# Altium schematic symbol library RPSLib_Connectors.SchLib: 97 symbols (part 1 of 2)
Pins are listed as number, name and electrical type; pins without a type are passive.

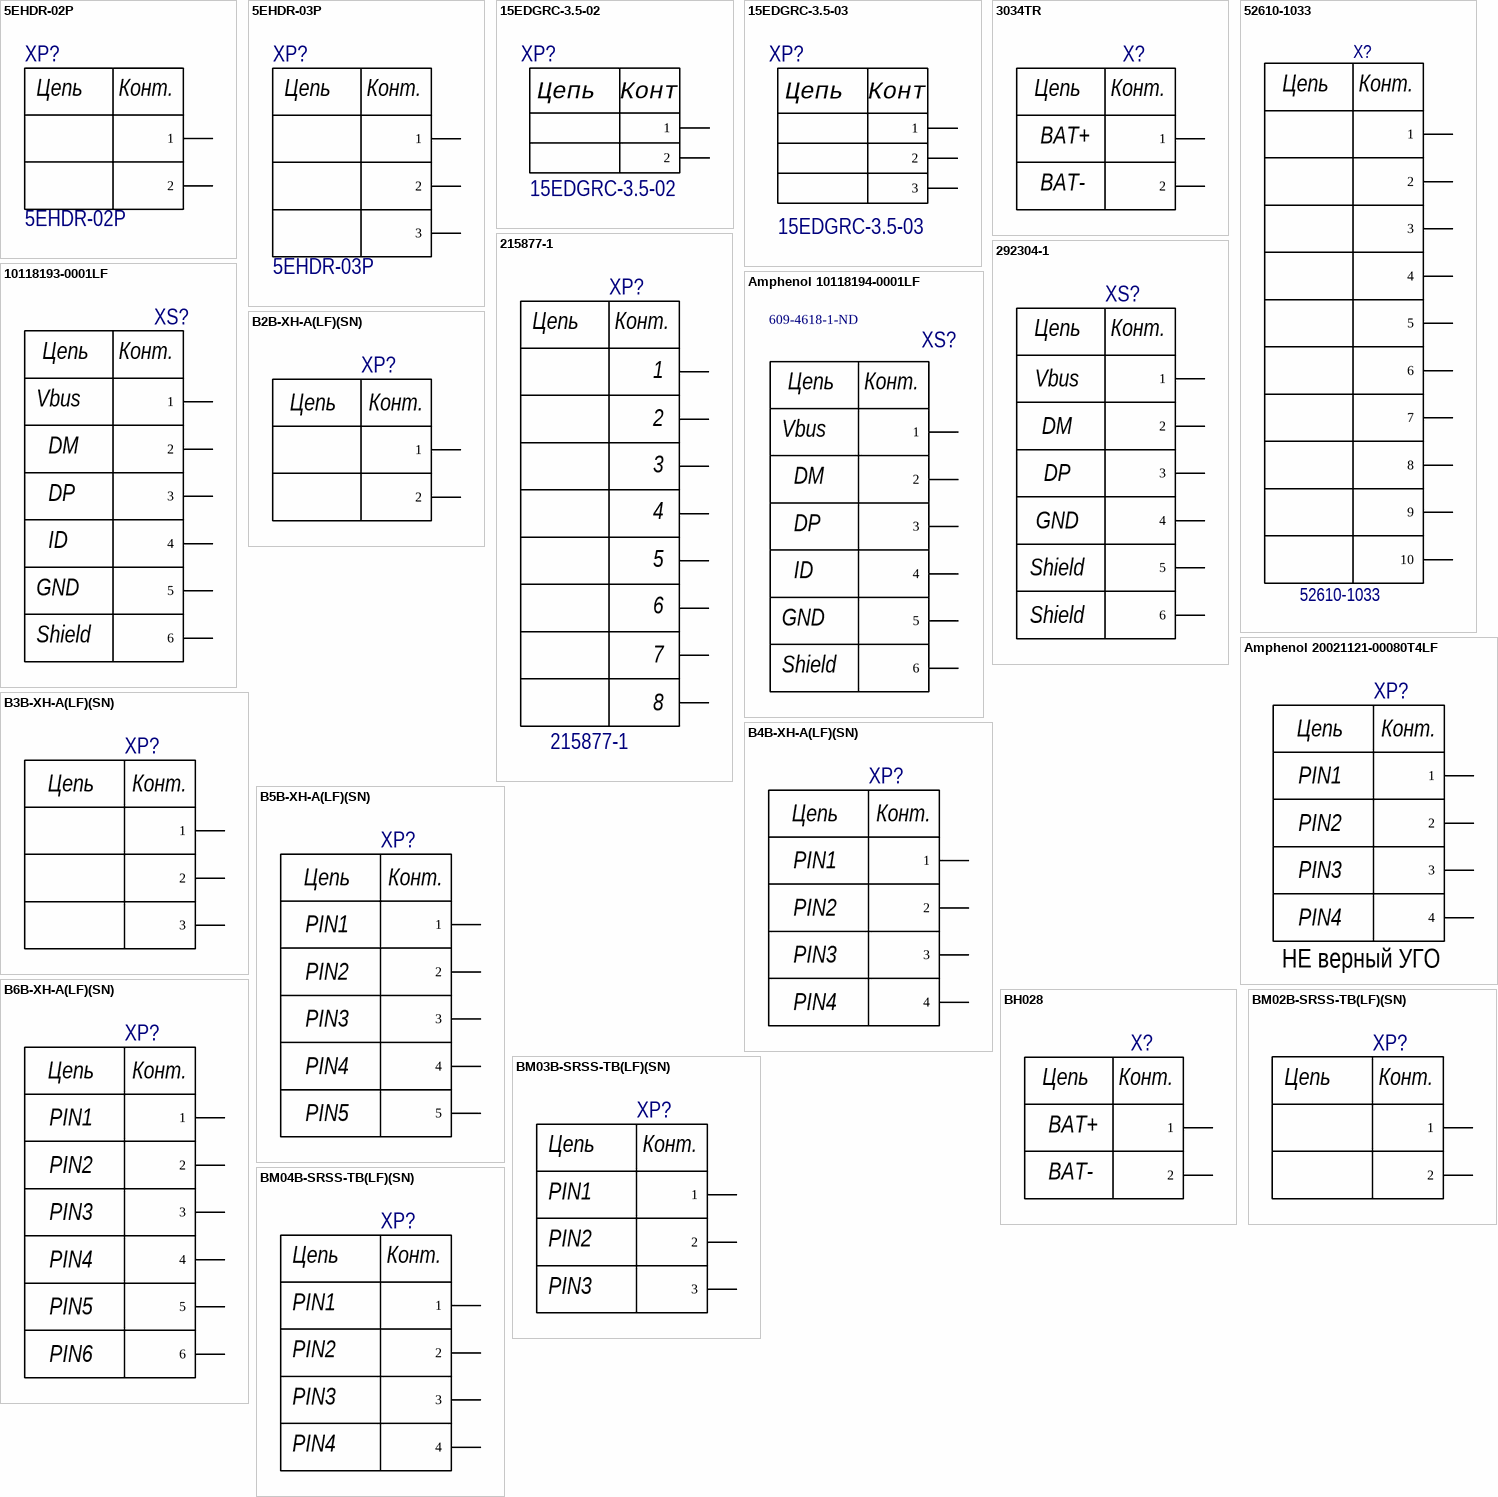
[diagram p0: symbols 5EHDR-02P to BM04B-SRSS-TB(LF)(SN)]

## 5EHDR-02P
designator XP?
PartNo: 5EHDR-03P
footprint 5EHDR-02P
pins: 1, 2
text: Цепь; Конт.

## 5EHDR-03P
designator XP?
PartNo: 5EHDR-03P
footprint 5EHDR-03P
pins: 1, 2, 3
text: Цепь; Конт.

## 15EDGRC-3.5-02
designator XP?
Клеммник разъемный угловой 3.5мм 2pin на плату; PartNo: 5EHDR-03P
footprint 15EDGRC-3.5-02 (Клеммник разъемный угловой 3.5мм 2pin на плату)
pins: 1, 2
text: Цепь; Конт

## 15EDGRC-3.5-03
designator XP?
Клеммник разъемный угловой 3.5мм 3pin на плату; PartNo: 5EHDR-03P
footprint 15EDGRC-3.5-03 (Клеммник разъемный угловой 3.5мм 3pin на плату)
pins: 1, 2, 3
text: Цепь; Конт

## 3034TR
designator X?  (value not drawn)
Держатель батареи; Manufacturer: JST; Manufacturer Part Number: B2B-XH-A(LF)(SN); Number of Positions: 2; Connector Type: Male Pin; Contact Resistance: 20mR; Max Current Rating: 3A; Max Voltage Rating (AC): 250V; Insulation Resistance: 1GR; Pitch: 2.5mm; Wire/Cable Gauge: 22AWG; Supplier 1: Digi-Key; Stock 1: 494280; Pricing 1: 1=0.15, 10=0.141, 100=0.0868, 500=0.07182, 1000=0.06284, 5000=0.05387, 10000=0.05237 (USD); Mount: Through Hole; Contact Plating: Copper,Lead,Tin; Colour: Natural; Contact Material: Brass; Housing Material: Polyamide; Housing Colour: White; Min Operating Temperature: -25°C; Max Operating Temperature: 85°C; Termination: Solder; Number of Rows: 1; Packaging: Bulk; Fastening Type: Detent; Orientation: Straight; Current Rating: 3A; Voltage Rating: 250V; Voltage Rating (AC): 250V; Number of Contacts: 2; Max Voltage Rating (DC): 250V; Length: 7.4mm; Depth: 5.75mm; Lead Pitch: 2.5mm; Lead Free: Lead Free; REACH SVHC: No SVHC; Supplier Part Number 1: 455-2247-ND; РКД Наименование: *
footprint 3034TR (3034TR Battery Holder)
pins: 1, 2
text: Цепь; Конт.; BAT+; BAT-

## 52610-1033
designator X?
Conn FFC/FPC Connector SKT 10 POS 1mm Solder ST SMD Embossed T/R; Manufacturer: Molex; Current Rating: 1A; Voltage Rating: 125V; Number of Positions: 10; Gender: Receptacle; Contact Resistance: 20mR; Stackable: No; Supplier 1: Digi-Key; Manufacturer Part Number: 52610-1033; RoHS: Yes; Category: FFC / FPC; Stock 1: 2389; Pricing 1: 1=1,43000, 10=1,18200, 100=0,98520 (USD); Contact Material: Bronze; Contact Plating: Tin,Silver; Housing Color: White; Housing Material: Polyamide; Min Operating Temperature: -40°C; Max Operating Temperature: 85°C; Number of Rows: 1; Package Quantity: 1000; Packaging: Tape and Reel; Termination: Solder; Number of Contacts: 10; Orientation: Vertical; Number of Circuits: 10; Length: 16.6mm; Pitch: 1mm; Depth: 4.5mm; Flammability Rating: UL94 V-0; RoHS Compliant: Yes; REACH SVHC: Unknown; ComponentLink1URL: https://datasheet.ciiva.com/22747/1752222-22747856.pdf?src-supplier=Element14; ComponentLink1Description: https://datasheet.ciiva.com/22747/1752222-22747856.pdf?src-supplier=Element14; ComponentLink2URL: https://datasheet.ciiva.com/24132/0526101033-ffc-fpc-connectors-294979-24132721.pdf?src-supplier=Mouser; ComponentLink2Description: https://datasheet.ciiva.com/24132/0526101033-ffc-fpc-connectors-294979-24132721.pdf?src-supplier=Mouser; ComponentLink3URL: https://datasheet.ciiva.com/26945/getdatasheetpartid-789778-26945556.pdf?src-supplier=Verical; ComponentLink3Description: https://datasheet.ciiva.com/26945/getdatasheetpartid-789778-26945556.pdf?src-supplier=Verical; ComponentLink4URL: https://datasheet.ciiva.com/30493/0900766b8127bcb6-30493910.pdf?src-supplier=RSComponents; ComponentLink4Description: https://datasheet.ciiva.com/30493/0900766b8127bcb6-30493910.pdf?src-supplier=RSComponents; Supplier Part Number 1: WM10999CT-ND
footprint MOLX-52610-1033 (FPC Connector, 10-Leads, Vertical, Pitch 1.0 mm, Mated Height 5.75 mm, SMT)
pins: 1, 2, 3, 4, 5, 6, 7, 8, 9, 10
text: Цепь; Конт.

## 215877-1
designator XP?
Conn RJ-45 F 8 POS 2.54mm Solder RA Thru-Hole 8 Terminal 1 Port Automotive Cat 3 Reel; Manufacturer: TE Connectivity; Supplier 1: LCSC; Manufacturer Part Number: 215877-1; RoHS: Yes; Category: Modular / Ethernet Connectors; Stock 1: 3875; Pricing 1: 1=0,87640, 10=0,72500, 30=0,61680, 100=0,44610, 500=0,43390, 1000=0,42780 (USD); ComponentLink1URL: https://datasheet.ciiva.com/14118/215877-draw-14118886.pdf?src-supplier=Distrelec; ComponentLink1Description: https://datasheet.ciiva.com/14118/215877-draw-14118886.pdf?src-supplier=Distrelec; ComponentLink2URL: https://datasheet.ciiva.com/15170/getdatasheetpartid-99014-15170516.pdf?src-supplier=Verical; ComponentLink2Description: https://datasheet.ciiva.com/15170/getdatasheetpartid-99014-15170516.pdf?src-supplier=Verical; ComponentLink3URL: https://datasheet.ciiva.com/16310/215877-1-16310656.pdf?src-supplier=Future+Electronics; ComponentLink3Description: https://datasheet.ciiva.com/16310/215877-1-16310656.pdf?src-supplier=Future+Electronics; ComponentLink4URL: https://datasheet.ciiva.com/1107/1656133-1107298.pdf?src-supplier=Element14; ComponentLink4Description: https://datasheet.ciiva.com/1107/1656133-1107298.pdf?src-supplier=Element14; ComponentLink5URL: https://datasheet.ciiva.com/6930/eng-cd-215877-af1-6930407.pdf?src-supplier=Digi-Key; ComponentLink5Description: https://datasheet.ciiva.com/6930/eng-cd-215877-af1-6930407.pdf?src-supplier=Digi-Key; ComponentLink6URL: https://datasheet.ciiva.com/6930/eng-cd-215877-af1-6930410.pdf?src-supplier=Digi-Key; ComponentLink6Description: https://datasheet.ciiva.com/6930/eng-cd-215877-af1-6930410.pdf?src-supplier=Digi-Key; ComponentLink7URL: https://datasheet.ciiva.com/30201/eng-cs-82066-mod-jacks-and-mrj21-prod-single-1107-30201829.pdf?src-supplier=Onlinecomponents.com; ComponentLink7Description: https://datasheet.ciiva.com/30201/eng-cs-82066-mod-jacks-and-mrj21-prod-single-1107-30201829.pdf?src-supplier=Onlinecomponents.com; Supplier Part Number 1: C305919
footprint TE 215877-1 (Alcoswitch SE, RJ45 Connectors,)
pins: 1, 2, 3, 4, 5, 6, 7, 8
text: Цепь; Конт.

## 292304-1
designator XS?  (value not drawn)
Conn USB RCP 4 POS 2.5mm Solder RA Thru-Hole 4 Terminal 1 Port Tray; Manufacturer: TE Connectivity; Number of Terminals/Pins: 4; Plating: Bright,Tin; Current Rating: 1A; Gender: Receptacle; Voltage Rating (AC): 30V; Number of Ports: 1; Insulation Resistance: 1GR; USB Standard: USB 2.0; Circuit Application: Signal; Connector System: Cable-to-Board; Plating Thickness: 0.76um; PCB Thickness: 1.57mm; Tail Length: 0.1185inch; Approvals: UL; Supplier 1: Digi-Key; Manufacturer Part Number: 292304-1; RoHS: Yes; Category: Audio / Video Connectors; Stock 1: 6478; Pricing 1: 1=2,10000, 10=1,90400, 25=1,78760, 50=1,70980, 100=1,63210, 250=1,47664, 500=1,36006, 1000=1,16577, 2500=1,08805 (USD); Mount: Through Hole,Horizontal; Contact Plating: Gold; Contact Material: Copper Alloy; Color: Black; Housing Material: Thermoplastic; Housing Color: Black; Min Operating Temperature: -67°C; Max Operating Temperature: 185°C; Package Quantity: 100; Packaging: Tray; Termination: Through Hole; Orientation: Right Angle; Connector Type: Receptacle; Number of Contacts: 4; Number of Positions: 4; Contact Current Rating: 1A; Length: 12.04mm; Pitch: 2.5mm; Depth: 15.71mm; REACH SVHC: No SVHC; Flammability Rating: UL94 V-0; ComponentLink1URL: https://datasheet.ciiva.com/851/eng-cd-292304-d2-851088.pdf?src-supplier=Farnell; ComponentLink1Description: https://datasheet.ciiva.com/851/eng-cd-292304-d2-851088.pdf?src-supplier=Farnell; ComponentLink2URL: https://datasheet.ciiva.com/19454/841053-19454496.pdf?src-supplier=Jameco; ComponentLink2Description: https://datasheet.ciiva.com/19454/841053-19454496.pdf?src-supplier=Jameco; ComponentLink3URL: https://datasheet.ciiva.com/11731/0900766b806d29cd-11731393.pdf?src-supplier=RSComponents; ComponentLink3Description: https://datasheet.ciiva.com/11731/0900766b806d29cd-11731393.pdf?src-supplier=RSComponents; ComponentLink4URL: https://datasheet.ciiva.com/3094/eng-ds-7-1773442-0-0306-3094358.pdf?src-supplier=Avnet; ComponentLink4Description: https://datasheet.ciiva.com/3094/eng-ds-7-1773442-0-0306-3094358.pdf?src-supplier=Avnet; ComponentLink5URL: https://datasheet.ciiva.com/30115/eng-ds-7-1773442-0-0306-30115450.pdf?src-supplier=Onlinecomponents.com; ComponentLink5Description: https://datasheet.ciiva.com/30115/eng-ds-7-1773442-0-0306-30115450.pdf?src-supplier=Onlinecomponents.com; ComponentLink6URL: https://datasheet.ciiva.com/1098/1646126-1098299.pdf?src-supplier=Element14; ComponentLink6Description: https://datasheet.ciiva.com/1098/1646126-1098299.pdf?src-supplier=Element14; ComponentLink7URL: https://datasheet.ciiva.com/851/eng-cd-292304-d2-851086.pdf?src-supplier=Digi-Key; ComponentLink7Description: https://datasheet.ciiva.com/851/eng-cd-292304-d2-851086.pdf?src-supplier=Digi-Key; ComponentLink8URL: https://datasheet.ciiva.com/14103/04270708-14103422.pdf?src-supplier=Distrelec; ComponentLink8Description: https://datasheet.ciiva.com/14103/04270708-14103422.pdf?src-supplier=Distrelec; ComponentLink9URL: https://datasheet.ciiva.com/25907/eng-ds-7-1773442-0-0306-25907519.pdf?src-supplier=Avnet+Europe; ComponentLink9Description: https://datasheet.ciiva.com/25907/eng-ds-7-1773442-0-0306-25907519.pdf?src-supplier=Avnet+Europe; Supplier Part Number 1: A31725-ND
footprint 292304-1 (USB-B TE 292304-1)
pins: 1, 2, 3, 4, 5, 6
text: Цепь; Конт.; Vbus; DM; DP; GND; Shield

## 10118193-0001LF
designator XS?  (value not drawn)
USB - micro B USB 2.0 Receptacle Connector 5 Position Surface Mount, Right Angle, Horizontal; Manufacturer: Amphenol FCI; Gender: Female; Connector Type: Receptacle,USB; Number of Contacts: 5; Insulation Resistance: 1GR; Number of Ports: 1; Current Rating: 1.8A; Max Voltage Rating (AC): 100V; Pitch: 0.65mm; Supplier 1: Digi-Key; Manufacturer Part Number: 10118193-0001LF; Stock 1: 277505; Pricing 1: 1=0.42, 10=0.393, 25=0.3536, 50=0.3144, 100=0.3013, 250=0.27512, 500=0.26202 (USD); Mount: Horizontal,Surface Mount; Contact Material: Copper Alloy; Contact Plating: Gold; Colour: Black; Number of Terminals: 5; Housing Material: Polymer; Min Operating Temperature: -55°C; Max Operating Temperature: 85°C; Termination: Solder; Orientation: Right Angle; Package Quantity: 1200; Packaging: Tape and Reel; Voltage Rating: 100V; Features: Shielded; Length: 7.86mm; Depth: 5.67mm; Radiation Hardening: No; Flammability Rating: UL94 V-0; ComponentLink1URL: https://cdn.amphenol-icc.com/media/wysiwyg/files/documentation/datasheet/inputoutput/io_usb_micro.pdf; ComponentLink1Description: https://cdn.amphenol-icc.com/media/wysiwyg/files/documentation/datasheet/inputoutput/io_usb_micro.pdf; Supplier Part Number 1: 609-4616-1-ND
footprint Amphenol 10118193-0001LF (USB Micro-B)
pins: 1, 2, 3, 4, 5, 6
text: Цепь; Конт.; Vbus; DM; DP; ID; GND; Shield

## Amphenol 10118194-0001LF
designator XS?  Supplier Part Number 1: 609-4618-1-ND  (hidden comment: Amphenol 10118194-0001LF)
CONN USB MICRO B RECPT SMT R/A; Manufacturer: Amphenol FCI; Connector Type: USB,Receptacle; Number of Contacts: 5; Insulation Resistance: 1GR; Number of Ports: 1; Max Voltage Rating (AC): 100V; Gender: Receptacle; Current Rating: 1.8A; Pitch: 0.65mm; РКД Наименование: *; Supplier 1: Digi-Key; Manufacturer Part Number: 10118194-0001LF; RoHS: Yes; Category: Connectors; Stock 1: 59432; Pricing 1: 1=0,43000, 10=0,40500, 25=0,36480, 50=0,32420, 100=0,31070, 250=0,28368, 500=0,27016 (USD); Mount: Surface Mount,Horizontal; Number of Terminals: 5; Color: Black; Contact Material: Copper Alloy; Contact Plating: Gold; Housing Material: Polymer; Min Operating Temperature: -55°C; Max Operating Temperature: 85°C; Termination: Solder; Orientation: Right Angle; Features: Shielded; Package Quantity: 9600; Packaging: Tape and Reel; Length: 8.05mm; Depth: 5mm; Radiation Hardening: No; Lead Free: Lead Free; Flammability Rating: UL94 V-0; ComponentLink1URL: https://datasheet.ciiva.com/4598/10118194ac-197217-4598807.pdf?src-supplier=Mouser; ComponentLink1Description: https://datasheet.ciiva.com/4598/10118194ac-197217-4598807.pdf?src-supplier=Mouser; ComponentLink2URL: https://datasheet.ciiva.com/26945/getdatasheetpartid-418619-26945695.pdf?src-supplier=Verical; ComponentLink2Description: https://datasheet.ciiva.com/26945/getdatasheetpartid-418619-26945695.pdf?src-supplier=Verical; ComponentLink3URL: https://datasheet.ciiva.com/851/10118194-851111.pdf?src-supplier=Digi-Key; ComponentLink3Description: https://datasheet.ciiva.com/851/10118194-851111.pdf?src-supplier=Digi-Key; ComponentLink4URL: https://datasheet.ciiva.com/851/10118194-851110.pdf?src-supplier=Digi-Key; ComponentLink4Description: https://datasheet.ciiva.com/851/10118194-851110.pdf?src-supplier=Digi-Key
footprint Amphenol 10118194-0001LF
pins: 1, 2, 3, 4, 5, 6
text: Цепь; Конт.; Vbus; DM; DP; ID; GND; Shield

## Amphenol 20021121-00080T4LF
designator XP?, comment 20021121-00080T4LF  (value not drawn)
CONN HEADER SMD 80POS 1.27MM; Manufacturer: Amphenol FCI; Connector Type: Male Pin; Gender: Male; Number of Positions: 80; Max Voltage Rating (AC): 125V; Contact Resistance: 30mR; Current Rating: 80A; Row Spacing: 0.05inch; Supplier 1: Digi-Key; Manufacturer Part Number: 20021121-00080T4LF; RoHS: Yes; Category: Headers and Wire Housings; Stock 1: 1299; Pricing 1: 1=5,01000, 10=4,80900, 100=4,00780, 500=3,40664, 1000=2,90566 (USD); Mount: Surface Mount; Housing Color: Black; Housing Material: Plastic; Contact Plating: Gold; Contact Material: Nickel,Copper Alloy; Color: Black; Min Operating Temperature: -40°C; Max Operating Temperature: 85°C; Orientation: Straight; Termination: Solder; Number of Contacts: 80; Number of Rows: 2; Packaging: Rail/Tube; Package Quantity: 11; Voltage Rating: 125V; Length: 50.8mm; Pitch: 1.27mm; Contact Mating Length: 0.12inch; Depth: 3.4mm; ComponentLink1URL: https://datasheet.ciiva.com/13857/20021121-13857653.pdf?src-supplier=Mouser; ComponentLink1Description: https://datasheet.ciiva.com/13857/20021121-13857653.pdf?src-supplier=Mouser; ComponentLink2URL: https://datasheet.ciiva.com/10102/20021121-10102217.pdf?src-supplier=Avnet; ComponentLink2Description: https://datasheet.ciiva.com/10102/20021121-10102217.pdf?src-supplier=Avnet; ComponentLink3URL: https://datasheet.ciiva.com/409/20021121-409196.pdf?src-supplier=Digi-Key; ComponentLink3Description: https://datasheet.ciiva.com/409/20021121-409196.pdf?src-supplier=Digi-Key; Supplier Part Number 1: 609-3741-ND
pins: 1, 2, 3, 4
text: Цепь; Конт.; PIN1; PIN2; PIN3; PIN4; НЕ верный УГО

## B2B-XH-A(LF)(SN)
designator XP?  (value not drawn)
CONN HEADER VERT 2POS 2.5MM; Manufacturer: JST; Number of Positions: 2; Connector Type: Male Pin; Contact Resistance: 20mR; Max Current Rating: 3A; Max Voltage Rating (AC): 250V; Insulation Resistance: 1GR; Wire/Cable Gauge: 22AWG; Supplier 1: Digi-Key; Manufacturer Part Number: B2B-XH-A(LF)(SN); Stock 1: 494280; Pricing 1: 1=0.15, 10=0.141, 100=0.0868, 500=0.07182, 1000=0.06284, 5000=0.05387, 10000=0.05237 (USD); Mount: Through Hole; Contact Plating: Copper,Lead,Tin; Colour: Natural; Contact Material: Brass; Housing Material: Polyamide; Housing Colour: White; Min Operating Temperature: -25°C; Max Operating Temperature: 85°C; Termination: Solder; Number of Rows: 1; Packaging: Bulk; Fastening Type: Detent; Orientation: Straight; Current Rating: 3A; Voltage Rating: 250V; Voltage Rating (AC): 250V; Number of Contacts: 2; Max Voltage Rating (DC): 250V; Length: 7.4mm; Pitch: 2.5mm; Depth: 5.75mm; Lead Pitch: 2.5mm; Lead Free: Lead Free; REACH SVHC: No SVHC; Supplier Part Number 1: 455-2247-ND; РКД Наименование: *
footprint B2B-XH-A (2 pin connector)
pins: 1, 2
text: Цепь; Конт.

## B3B-XH-A(LF)(SN)
designator XP?  (value not drawn)
JST (JAPAN SOLDERLESS TERMINALS) - B3B-XH-A (LF)(SN) - Wire-To-Board Connector, 2.5 mm, 3 Contacts, Header, XH Series, Through Hole, 1 Rows; Connector Type: Male Pin; Current Rating: 3A; Number of Positions: 3; Voltage Rating (AC): 250V; Contact Resistance: 20mR; Gender: Male; Insulation Resistance: 1GR; Pitch: 2.5mm; Wire/Cable Gauge: 22AWG; Supplier 1: Digi-Key; Manufacturer: JST; Manufacturer Part Number: B3B-XH-A(LF)(SN); RoHS: Yes; Category: Headers and Wire Housings; Stock 1: 38304; Pricing 1: 1=0,190000, 10=0,181000, 100=0,111500, 500=0,092280, 1000=0,080750, 5000=0,069210, 10000=0,067290 (USD); Mount: Through Hole; Contact Plating: Tin,Lead,Copper; Contact Material: Brass; Color: Natural; Housing Color: White; Housing Material: Polyamide; Min Operating Temperature: -25°C; Max Operating Temperature: 85°C; Number of Rows: 1; Packaging: Bulk; Termination: Press-Fit; Orientation: Straight; Max Current Rating: 3A; Voltage Rating: 250V; Fastening Type: Detent; Number of Contacts: 3; Max Voltage Rating (AC): 250V; Max Voltage Rating (DC): 250V; Length: 9.9mm; Lead Pitch: 2.5mm; Depth: 5.75mm; Lead Free: Lead Free; REACH SVHC: No SVHC; ComponentLink1URL: https://datasheet.ciiva.com/26894/getdatasheetpartid-640434-26894454.pdf?src-supplier=Verical; ComponentLink1Description: https://datasheet.ciiva.com/26894/getdatasheetpartid-640434-26894454.pdf?src-supplier=Verical; ComponentLink2URL: https://datasheet.ciiva.com/11746/0900766b8082653f-11746520.pdf?src-supplier=RSComponents; ComponentLink2Description: https://datasheet.ciiva.com/11746/0900766b8082653f-11746520.pdf?src-supplier=RSComponents; ComponentLink3URL: https://datasheet.ciiva.com/26894/getdatasheetpartid-440399-26894778.pdf?src-supplier=Verical; ComponentLink3Description: https://datasheet.ciiva.com/26894/getdatasheetpartid-440399-26894778.pdf?src-supplier=Verical; Supplier Part Number 1: 455-2248-ND
footprint B3B-XH-A (JST 3 pin connector XH)
pins: 1, 2, 3
text: Цепь; Конт.

## B4B-XH-A(LF)(SN)
designator XP?
CONN HEADER VERT 4POS 2.5MM; Manufacturer: JST; Manufacturer Part Number: B4B-XH-A(LF)(SN); Current Rating: 3A; Contact Resistance: 20mR; Voltage Rating (AC): 250V; Number of Positions: 4; Insulation Resistance: 1GR; Connector Type: Male Pin; Gender: Male; Wire/Cable Gauge: 22AWG; Supplier 1: Digi-Key; Stock 1: 97651; Pricing 1: 1=0,210000, 10=0,194000, 100=0,134800, 500=0,114060, 1000=0,093330, 5000=0,082960, 10000=0,075180 (USD); RoHS: Yes; Mount: Through Hole; Contact Material: Brass; Contact Plating: Tin,Copper,Lead; Color: Natural; Housing Color: White; Housing Material: Polyamide; Material: Polyamide; Min Operating Temperature: -25°C; Max Operating Temperature: 85°C; Number of Rows: 1; Max Current Rating: 3A; Package Quantity: 500; Packaging: Bulk; Voltage Rating: 250V; Termination: Press-Fit; Max Voltage Rating (AC): 250V; Max Voltage Rating (DC): 250V; Number of Contacts: 4; Orientation: Straight; Length: 12.4mm; Pitch: 2.5mm; Lead Pitch: 2.5mm; Depth: 5.75mm; REACH SVHC: No SVHC; Lead Free: Lead Free; ComponentLink1URL: https://datasheet.ciiva.com/26894/getdatasheetpartid-455616-26894787.pdf?src-supplier=Verical; ComponentLink1Description: https://datasheet.ciiva.com/26894/getdatasheetpartid-455616-26894787.pdf?src-supplier=Verical; ComponentLink2URL: https://datasheet.ciiva.com/26924/getdatasheetpartid-640571-26924035.pdf?src-supplier=Verical; ComponentLink2Description: https://datasheet.ciiva.com/26924/getdatasheetpartid-640571-26924035.pdf?src-supplier=Verical; ComponentLink3URL: https://datasheet.ciiva.com/16203/b4b-xh-alfsn-16203642.pdf?src-supplier=Future+Electronics; ComponentLink3Description: https://datasheet.ciiva.com/16203/b4b-xh-alfsn-16203642.pdf?src-supplier=Future+Electronics; ComponentLink4URL: https://datasheet.ciiva.com/726/exh-726404.pdf?src-supplier=Digi-Key; ComponentLink4Description: https://datasheet.ciiva.com/726/exh-726404.pdf?src-supplier=Digi-Key; Supplier Part Number 1: 455-2249-ND
footprint B4B-XH-A (JST 4 pin connector)
pins: 1, 2, 3, 4
text: Цепь; Конт.; PIN1; PIN2; PIN3; PIN4

## B5B-XH-A(LF)(SN)
designator XP?  (value not drawn)
Conn Shrouded Header HDR 5 POS 2.5mm Solder ST Thru-Hole Box; Manufacturer: JST; Current Rating: 3A; Number of Positions: 5; Insulation Resistance: 1GR; Max Voltage Rating (AC): 250V; Gender: Male; Connector Type: Male Pin; Contact Resistance: 20mR; Wire/Cable Gauge: 22AWG; Supplier 1: Digi-Key; Manufacturer Part Number: B5B-XH-A(LF)(SN); RoHS: Yes; Category: Headers and Wire Housings; Stock 1: 87563; Pricing 1: 1=0,250000, 10=0,237000, 100=0,164400, 500=0,139140, 1000=0,113830, 5000=0,101190, 10000=0,091700 (USD); Mount: Through Hole; Contact Material: Brass; Housing Color: White; Housing Material: Polyamide; Color: Natural; Contact Plating: Tin,Lead,Copper; Min Operating Temperature: -25°C; Max Operating Temperature: 85°C; Termination: Press-Fit; Fastening Type: Detent; Number of Contacts: 5; Orientation: Straight; Voltage Rating (AC): 250V; Number of Rows: 1; Packaging: Bulk; Voltage Rating: 250V; Max Current Rating: 3A; Length: 14.9mm; Pitch: 2.5mm; Depth: 5.75mm; Lead Pitch: 2.5mm; REACH SVHC: No SVHC; Lead Free: Lead Free; ComponentLink1URL: https://datasheet.ciiva.com/11746/0900766b8082f55f-11746654.pdf?src-supplier=RSComponents; ComponentLink1Description: https://datasheet.ciiva.com/11746/0900766b8082f55f-11746654.pdf?src-supplier=RSComponents; ComponentLink2URL: https://datasheet.ciiva.com/26894/getdatasheetpartid-455618-26894798.pdf?src-supplier=Verical; ComponentLink2Description: https://datasheet.ciiva.com/26894/getdatasheetpartid-455618-26894798.pdf?src-supplier=Verical; ComponentLink3URL: https://datasheet.ciiva.com/26894/getdatasheetpartid-640991-26894479.pdf?src-supplier=Verical; ComponentLink3Description: https://datasheet.ciiva.com/26894/getdatasheetpartid-640991-26894479.pdf?src-supplier=Verical; ComponentLink4URL: https://datasheet.ciiva.com/724/exh-724390.pdf?src-supplier=Digi-Key; ComponentLink4Description: https://datasheet.ciiva.com/724/exh-724390.pdf?src-supplier=Digi-Key; ComponentLink5URL: https://datasheet.ciiva.com/20207/523653-20207174.pdf?src-supplier=Rapid+Electronics; ComponentLink5Description: https://datasheet.ciiva.com/20207/523653-20207174.pdf?src-supplier=Rapid+Electronics; ComponentLink6URL: https://datasheet.ciiva.com/8052/1684882-8052063.pdf?src-supplier=Element14; ComponentLink6Description: https://datasheet.ciiva.com/8052/1684882-8052063.pdf?src-supplier=Element14; Supplier Part Number 1: 455-2270-ND
footprint B5B-XH-A (JST 5 pin connector XH)
pins: 1, 2, 3, 4, 5
text: Цепь; Конт.; PIN1; PIN2; PIN3; PIN4; PIN5

## B6B-XH-A(LF)(SN)
designator XP?  (value not drawn)
Conn Shrouded Header HDR 6 POS 2.5mm Solder ST Thru-Hole Box; Manufacturer: JST; Supplier 1: Digi-Key; Manufacturer Part Number: B6B-XH-A(LF)(SN); RoHS: Yes; Stock 1: 6821; Pricing 1: 1=0,27000, 10=0,25800, 100=0,18080, 500=0,15494, 1000=0,12912, 5000=0,11068, 10000=0,10330 (USD); Weight: 0.0625lb; Length: 0.75inch; Height: 0.5inch; Width: 0.5inch; ComponentLink1URL: http://www.farnell.com/datasheets/2082976.pdf?src-supplier=Farnell; ComponentLink1Description: http://www.farnell.com/datasheets/2082976.pdf?src-supplier=Farnell; Supplier Part Number 1: 455-2271-ND
footprint B6B-XH-A (JST 6 pin connector)
pins: 1, 2, 3, 4, 5, 6
text: Цепь; Конт.; PIN1; PIN2; PIN3; PIN4; PIN5; PIN6

## BH028
designator X?  (value not drawn)
Держатель батареи; Manufacturer: JST; Manufacturer Part Number: B2B-XH-A(LF)(SN); Number of Positions: 2; Connector Type: Male Pin; Contact Resistance: 20mR; Max Current Rating: 3A; Max Voltage Rating (AC): 250V; Insulation Resistance: 1GR; Pitch: 2.5mm; Wire/Cable Gauge: 22AWG; Supplier 1: Digi-Key; Stock 1: 494280; Pricing 1: 1=0.15, 10=0.141, 100=0.0868, 500=0.07182, 1000=0.06284, 5000=0.05387, 10000=0.05237 (USD); Mount: Through Hole; Contact Plating: Copper,Lead,Tin; Colour: Natural; Contact Material: Brass; Housing Material: Polyamide; Housing Colour: White; Min Operating Temperature: -25°C; Max Operating Temperature: 85°C; Termination: Solder; Number of Rows: 1; Packaging: Bulk; Fastening Type: Detent; Orientation: Straight; Current Rating: 3A; Voltage Rating: 250V; Voltage Rating (AC): 250V; Number of Contacts: 2; Max Voltage Rating (DC): 250V; Length: 7.4mm; Depth: 5.75mm; Lead Pitch: 2.5mm; Lead Free: Lead Free; REACH SVHC: No SVHC; Supplier Part Number 1: 455-2247-ND; РКД Наименование: *
footprint BH028 (Держатель батареи)
pins: 1, 2
text: Цепь; Конт.; BAT+; BAT-

## BM02B-SRSS-TB(LF)(SN)
designator XP?, comment BM02B-SRSS-TBT(LF)(SN)  (value not drawn)
CONN WIRE HDR 2POS 1MM STSMD; Manufacturer: JST; Manufacturer Part Number: BM02B-SRSS-TB(LF)(SN); Number of Positions: 2; Connector Type: Male Pin; Current Rating: 1A; Contact Resistance: 20mR; Voltage Rating (AC): 50V; Insulation Resistance: 100MR; Gender: Male; Pitch: 0.039inch; ComponentLink1URL: https://datasheet.ciiva.com/26894/getdatasheetpartid-714049-26894825.pdf?src-supplier=Verical; ComponentLink1Description: https://datasheet.ciiva.com/26894/getdatasheetpartid-714049-26894825.pdf?src-supplier=Verical; ComponentLink2URL: https://datasheet.ciiva.com/26924/getdatasheetpartid-707004-26924042.pdf?src-supplier=Verical; ComponentLink2Description: https://datasheet.ciiva.com/26924/getdatasheetpartid-707004-26924042.pdf?src-supplier=Verical; ComponentLink3URL: https://datasheet.ciiva.com/726/esr-726594.pdf?src-supplier=Digi-Key; ComponentLink3Description: https://datasheet.ciiva.com/726/esr-726594.pdf?src-supplier=Digi-Key; ComponentLink4URL: https://datasheet.ciiva.com/16379/esr-16379596.pdf?src-supplier=Future+Electronics; ComponentLink4Description: https://datasheet.ciiva.com/16379/esr-16379596.pdf?src-supplier=Future+Electronics; Supplier 1: Digi-Key; Stock 1: 162312; Pricing 1: 1=0,46000, 10=0,43000, 100=0,32930, 500=0,28638 (USD); RoHS: Yes; Mount: Surface Mount; Contact Plating: Tin,Lead; Contact Material: Copper Alloy; Color: Natural; Housing Color: Natural; Housing Material: Nylon; Material: Polyamide; Min Operating Temperature: -25°C; Max Operating Temperature: 85°C; Number of Rows: 1; Termination: Solder; Packaging: Tape and Reel; Number of Contacts: 2; Lead Pitch: 1mm; Lead Free: Lead Free; REACH SVHC: No SVHC; Flammability Rating: UL94 V-0; ComponentLink5URL: https://datasheet.ciiva.com/8052/91630-8052077.pdf?src-supplier=Element14; ComponentLink5Description: https://datasheet.ciiva.com/8052/91630-8052077.pdf?src-supplier=Element14; ComponentLink6URL: https://datasheet.ciiva.com/16351/bm02b-srss-tb-lf-sn-16351949.pdf?src-supplier=Future+Electronics; ComponentLink6Description: https://datasheet.ciiva.com/16351/bm02b-srss-tb-lf-sn-16351949.pdf?src-supplier=Future+Electronics; Supplier Part Number 1: 455-1788-1-ND
footprint BM02B-SRSS-TB(LF)(SN) (JST 1.0 mm pitch connector)
pins: 1, 2
text: Цепь; Конт.

## BM03B-SRSS-TB(LF)(SN)
designator XP?  (value not drawn)
CONN HEADER SMD 3POS 1MM; Manufacturer: JST; Number of Positions: 3; Connector Type: Male Pin; Current Rating: 1A; Contact Resistance: 20mR; Voltage Rating (AC): 50V; Insulation Resistance: 100MR; Gender: Male; Pitch: 0.039inch; Supplier 1: Digi-Key; Manufacturer Part Number: BM03B-SRSS-TB(LF)(SN); RoHS: Yes; Category: Headers and Wire Housings; Stock 1: 33942; Pricing 1: 1=0,54000, 10=0,50500, 100=0,38700, 500=0,33652 (USD); Mount: Surface Mount; Color: Natural; Contact Plating: Tin,Lead; Contact Material: Copper Alloy; Housing Color: Natural; Housing Material: Nylon; Material: Polyamide; Min Operating Temperature: -25°C; Max Operating Temperature: 85°C; Number of Rows: 1; Packaging: Tape and Reel; Termination: Solder; Number of Contacts: 3; Lead Pitch: 1mm; Lead Free: Lead Free; REACH SVHC: No SVHC; Flammability Rating: UL94 V-0; ComponentLink1URL: http://www.farnell.com/datasheets/2082363.pdf?src-supplier=Farnell; ComponentLink1Description: http://www.farnell.com/datasheets/2082363.pdf?src-supplier=Farnell; ComponentLink2URL: http://www.farnell.com/datasheets/91630.pdf?src-supplier=Element14; ComponentLink2Description: http://www.farnell.com/datasheets/91630.pdf?src-supplier=Element14; ComponentLink3URL: http://www.jst-mfg.com/product/pdf/eng/eSR.pdf?src-supplier=Future+Electronics; ComponentLink3Description: http://www.jst-mfg.com/product/pdf/eng/eSR.pdf?src-supplier=Future+Electronics; ComponentLink4URL: http://www.jst-mfg.com/product/pdf/eng/eSR.pdf?src-supplier=Digi-Key; ComponentLink4Description: http://www.jst-mfg.com/product/pdf/eng/eSR.pdf?src-supplier=Digi-Key; Supplier Part Number 1: 455-1789-1-ND
footprint BM03B-SRSS-TB(LF)(SN) (JST 1.0 mm pitch connector)
pins: 1, 2, 3
text: Цепь; Конт.; PIN1; PIN2; PIN3

## BM04B-SRSS-TB(LF)(SN)
designator XP?  (value not drawn)
CONN HEADER SMD 4POS 1MM; Manufacturer: JST; Number of Positions: 4; Connector Type: Male Pin; Current Rating: 1A; Contact Resistance: 40mR; Voltage Rating (AC): 50V; Insulation Resistance: 100MR; Gender: Male; Pitch: 0.039inch; Supplier 1: Digi-Key; Manufacturer Part Number: BM04B-SRSS-TB(LF)(SN); RoHS: Yes; Category: Connectors; Stock 1: 28453; Pricing 1: 1=0,63000, 10=0,59200, 100=0,45400, 500=0,39480 (USD); Mount: Surface Mount; Contact Plating: Tin,Lead,Copper; Contact Material: Copper Alloy; Color: Natural; Housing Color: Beige; Housing Material: Polyamide; Material: Polyamide; Min Operating Temperature: -25°C; Max Operating Temperature: 85°C; Number of Rows: 1; Termination: Solder; Packaging: Tape and Reel; Number of Contacts: 4; Orientation: Straight; Max Current Rating: 1A; Max Voltage Rating (AC): 50V; Max Voltage Rating (DC): 50V; Length: 6mm; Lead Pitch: 1mm; Depth: 2.9mm; Lead Free: Lead Free; REACH SVHC: No SVHC; Flammability Rating: UL94 V-0; ComponentLink1URL: https://datasheet.ciiva.com/26894/getdatasheetpartid-690899-26894827.pdf?src-supplier=Verical; ComponentLink1Description: https://datasheet.ciiva.com/26894/getdatasheetpartid-690899-26894827.pdf?src-supplier=Verical; ComponentLink2URL: https://datasheet.ciiva.com/26924/getdatasheetpartid-708793-26924043.pdf?src-supplier=Verical; ComponentLink2Description: https://datasheet.ciiva.com/26924/getdatasheetpartid-708793-26924043.pdf?src-supplier=Verical; ComponentLink3URL: https://datasheet.ciiva.com/16211/esr-16211085.pdf?src-supplier=Future+Electronics; ComponentLink3Description: https://datasheet.ciiva.com/16211/esr-16211085.pdf?src-supplier=Future+Electronics; Supplier Part Number 1: 455-1790-1-ND
footprint BM04B-SRSS-TB(LF)(SN) (JST 1.0 mm pitch connector)
pins: 1, 2, 3, 4
text: Цепь; Конт.; PIN1; PIN2; PIN3; PIN4

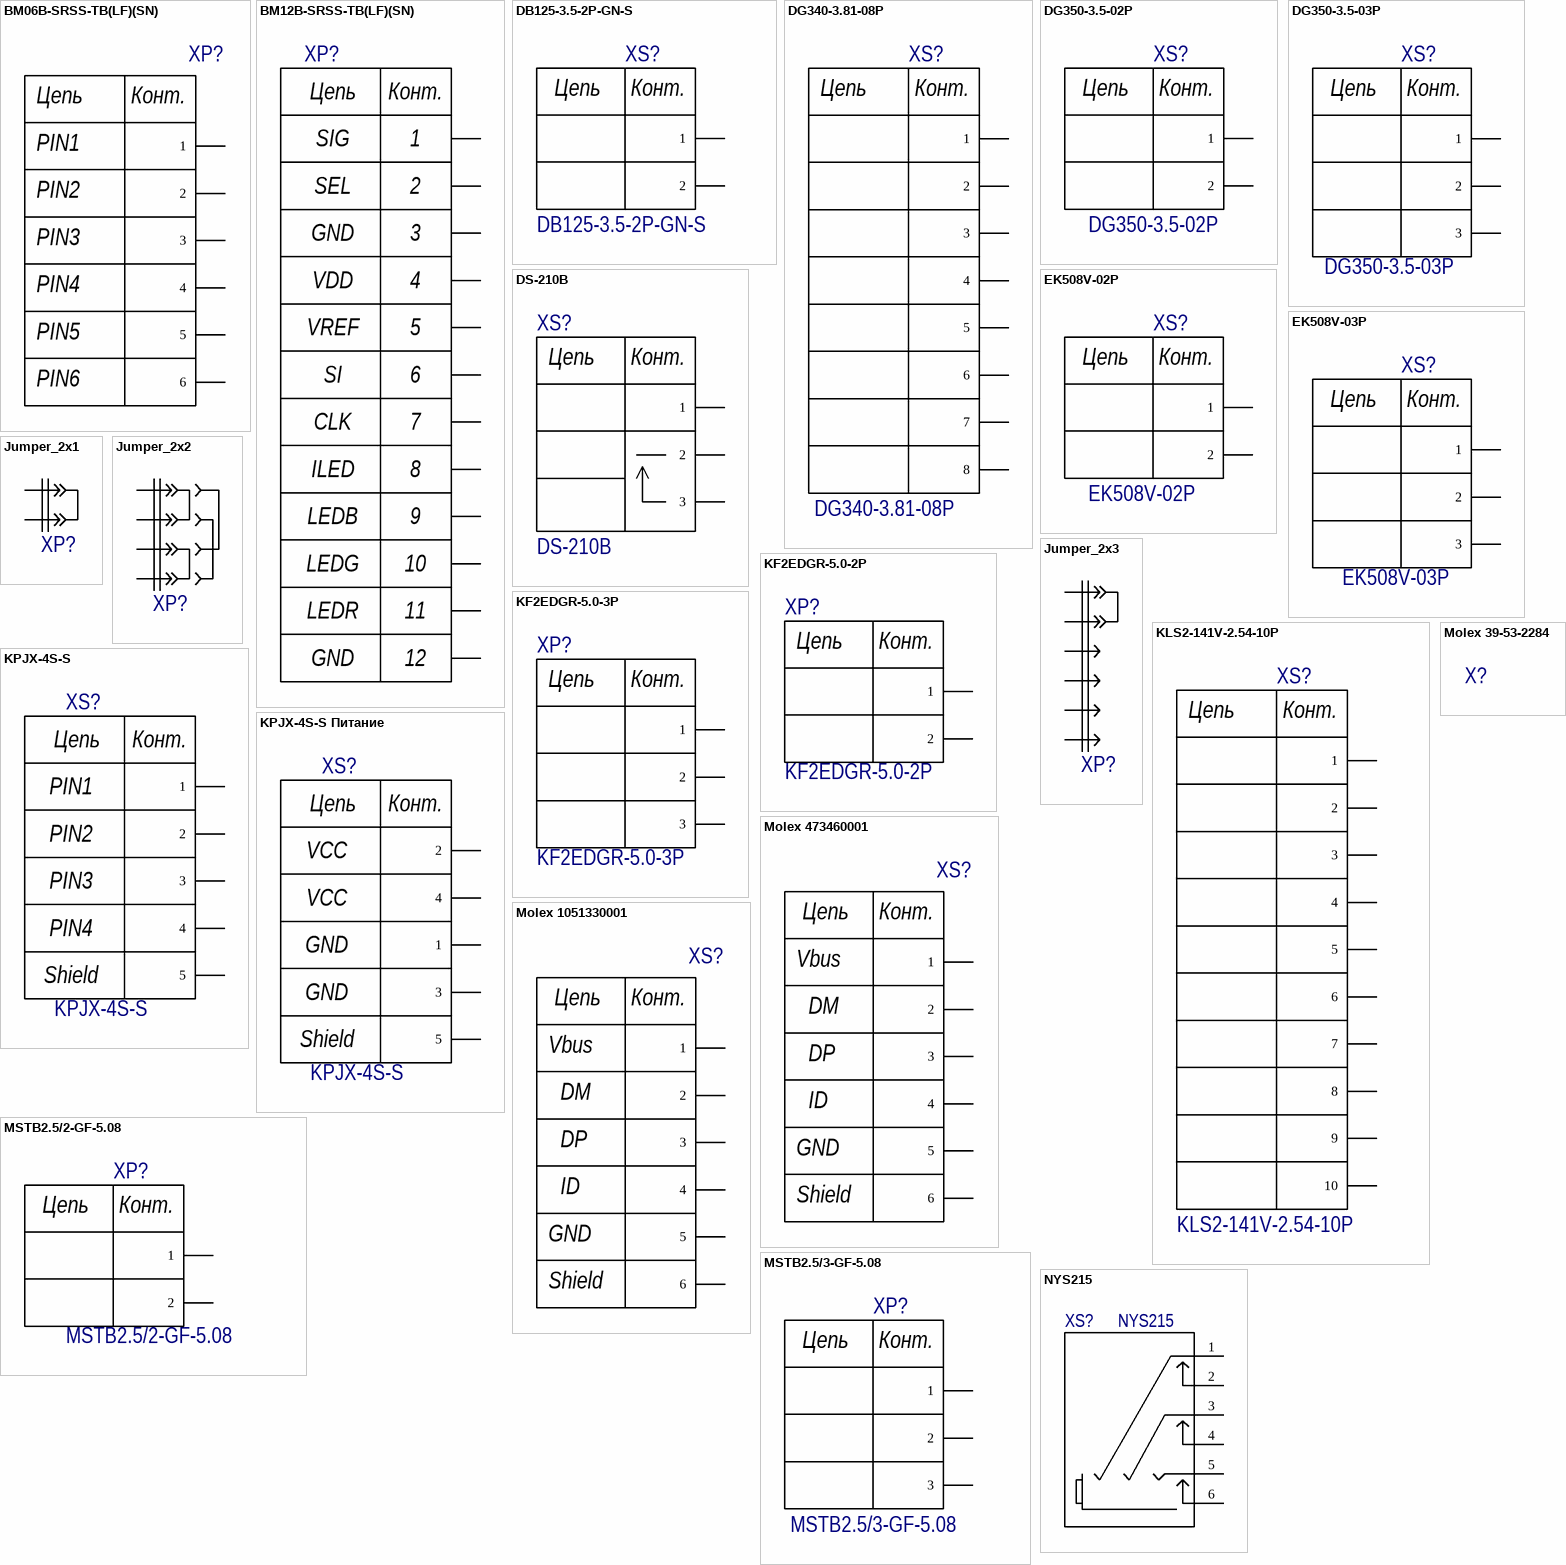
[diagram p1: symbols BM06B-SRSS-TB(LF)(SN) to NYS215]

## BM06B-SRSS-TB(LF)(SN)
designator XP?  (value not drawn)
1 mm Pitch 6 Position SMT Single Row Top Entry Shrouded Header; Manufacturer: JST; Number of Positions: 6; Connector Type: Male Pin; Contact Resistance: 20mR; Current Rating: 1A; Voltage Rating (AC): 50V; Insulation Resistance: 100MR; Gender: Male; Pitch: 0.039inch; Supplier 1: Digi-Key; Manufacturer Part Number: BM06B-SRSS-TB(LF)(SN); RoHS: Yes; Category: Connectors; Stock 1: 15679; Pricing 1: 1=0,76000, 10=0,67200, 100=0,57970, 500=0,47428 (USD); Mount: Surface Mount; Contact Plating: Tin,Lead; Contact Material: Copper Alloy; Color: Natural; Housing Color: Natural; Housing Material: Nylon; Material: Polyamide; Min Operating Temperature: -25°C; Max Operating Temperature: 85°C; Number of Rows: 1; Packaging: Tape and Reel; Termination: Solder; Number of Contacts: 6; Orientation: Straight; Voltage Rating: 50V; Lead Pitch: 1mm; Lead Free: Lead Free; REACH SVHC: No SVHC; Flammability Rating: UL94 V-0; ComponentLink1URL: https://datasheet.ciiva.com/11752/0900766b80849807-11752119.pdf?src-supplier=RSComponents; ComponentLink1Description: https://datasheet.ciiva.com/11752/0900766b80849807-11752119.pdf?src-supplier=RSComponents; ComponentLink2URL: https://datasheet.ciiva.com/8052/1393414-8052086.pdf?src-supplier=Element14; ComponentLink2Description: https://datasheet.ciiva.com/8052/1393414-8052086.pdf?src-supplier=Element14; ComponentLink3URL: https://datasheet.ciiva.com/712/esr-712587.pdf?src-supplier=Digi-Key; ComponentLink3Description: https://datasheet.ciiva.com/712/esr-712587.pdf?src-supplier=Digi-Key; ComponentLink4URL: https://datasheet.ciiva.com/712/esr-712588.pdf?src-supplier=Digi-Key; ComponentLink4Description: https://datasheet.ciiva.com/712/esr-712588.pdf?src-supplier=Digi-Key; ComponentLink5URL: https://datasheet.ciiva.com/730/esr-730652.pdf?src-supplier=Digi-Key; ComponentLink5Description: https://datasheet.ciiva.com/730/esr-730652.pdf?src-supplier=Digi-Key; ComponentLink6URL: https://datasheet.ciiva.com/16419/esr-16419212.pdf?src-supplier=Future+Electronics; ComponentLink6Description: https://datasheet.ciiva.com/16419/esr-16419212.pdf?src-supplier=Future+Electronics; Supplier Part Number 1: 455-1792-1-ND
footprint BM06B-SRSS-TB(LF)(SN) (JST 1.0 mm pitch connector)
pins: 1, 2, 3, 4, 5, 6
text: Цепь; Конт.; PIN1; PIN2; PIN3; PIN4; PIN5; PIN6

## BM12B-SRSS-TB(LF)(SN)
designator XP?  (value not drawn)
12 Positions Header, Shrouded Connector 0.039" (1.00mm) Surface Mount Tin; Manufacturer: JST; Number of Positions: 12; Connector Type: Male Pin; Pitch: 0.039inch; Supplier 1: Digi-Key; Manufacturer Part Number: BM12B-SRSS-TB(LF)(SN); RoHS: Yes; Category: Connectors; Stock 1: 7820; Pricing 1: 1=1,20000, 10=1,05600, 100=0,91070, 500=0,74512 (USD); Mount: Surface Mount; Color: Natural; Contact Plating: Tin; Contact Material: Copper Alloy; Housing Color: Natural; Housing Material: Nylon; Number of Rows: 1; Packaging: Tape and Reel; Termination: Solder; Number of Contacts: 12; Lead Free: Lead Free; ComponentLink1URL: https://datasheet.ciiva.com/11752/0900766b8063507b-11752074.pdf?src-supplier=RSComponents; ComponentLink1Description: https://datasheet.ciiva.com/11752/0900766b8063507b-11752074.pdf?src-supplier=RSComponents; ComponentLink2URL: https://datasheet.ciiva.com/16420/bm12b-srss-tblfsn-16420661.pdf?src-supplier=Future+Electronics; ComponentLink2Description: https://datasheet.ciiva.com/16420/bm12b-srss-tblfsn-16420661.pdf?src-supplier=Future+Electronics; ComponentLink3URL: https://datasheet.ciiva.com/730/esr-730620.pdf?src-supplier=Digi-Key; ComponentLink3Description: https://datasheet.ciiva.com/730/esr-730620.pdf?src-supplier=Digi-Key; ComponentLink4URL: https://datasheet.ciiva.com/712/esr-712686.pdf?src-supplier=Digi-Key; ComponentLink4Description: https://datasheet.ciiva.com/712/esr-712686.pdf?src-supplier=Digi-Key; ComponentLink5URL: https://datasheet.ciiva.com/712/esr-712687.pdf?src-supplier=Digi-Key; ComponentLink5Description: https://datasheet.ciiva.com/712/esr-712687.pdf?src-supplier=Digi-Key; Supplier Part Number 1: 455-1798-1-ND
footprint BM12B-SRSS-TB(LF)(SN) (JST 1.0 mm pitch connector)
pins: 1 SIG, 2 SEL, 3 GND, 4 VDD, 5 VREF, 6 SI, 7 CLK, 8 ILED, 9 LEDB, 10 LEDG, 11 LEDR, 12 GND
text: Цепь; Конт.

## DB125-3.5-2P-GN-S
designator XS?
1 -40℃~+105℃ 13.5A 250V Green Straight pin 3.5mm 1 16~28 2 Straight,P=3.5mm Screw terminal ROHS; Manufacturer: Cixi Dibo Electronics; Manufacturer Part Number: DB125-3.5-2P-GN-S; Supplier Part Number 1: C466970; Supplier 1: LCSC
footprint DB125-3.5-2P (Клеммник на плату 3.5 мм)
pins: 1, 2
text: Цепь; Конт.

## DG340-3.81-08P
designator XS?
footprint DG340-3.81-08P
pins: 1, 2, 3, 4, 5, 6, 7, 8
text: Цепь; Конт.

## DG350-3.5-02P
designator XS?
Клеммник на плату 3.5 мм
footprint DG350-3.5-02P (Клеммник на плату 3.5 мм)
pins: 1, 2
text: Цепь; Конт.

## DG350-3.5-03P
designator XS?
Клеммник на плату 3.5 мм
footprint DG350-3.5-03P (Клеммник на плату 3.5 мм)
pins: 1, 2, 3
text: Цепь; Конт.

## DS-210B
designator XS?
Гнездо питания 2,1х5,5 мм; Manufacturer: Dragon City Industries; Voltage Rating (Max): 30V; Current Rating (Max): 15A; Number of PINs Per Row: 3; Manufacturer Part Number: DS-210B; Supplier 1: ChipDIp; Supplier Part Number 1: 463130296
footprint DS-210B (Гнездо питания 2,1х5,5мм на панель)
pins: 1, 2, 3
text: Цепь; Конт.

## EK508V-02P
designator XS?
Клеммник на плату 5,08 мм; Manufacturer: *; Manufacturer Part Number: *; Supplier Part Number 1: *; Supplier 1: *
footprint EK508V-02P (Footprint not found)
pins: 1, 2
text: Цепь; Конт.

## EK508V-03P
designator XS?
Клеммник на плату 5,08 мм; Manufacturer: *; Manufacturer Part Number: *; Supplier Part Number 1: *; Supplier 1: *
footprint EK508V-03P (Клеммник на плату 5.08 мм)
pins: 1, 2, 3
text: Цепь; Конт.

## Jumper_2x1
designator XP?, comment Jumper  (value not drawn)
Conn Unshrouded Header HDR 2 POS 2.54mm Solder ST Top Entry Thru-Hole BergStik® Bulk; Manufacturer: Amphenol ICC / FCI; Manufacturer Part Number: 67996-102HLF; Supplier 1: Digi-Key; RoHS: Yes; Category: Headers and Wire Housings; ComponentLink1URL: https://datasheet.ciiva.com/5164/67996-223094-5164053.pdf?src-supplier=Mouser; ComponentLink1Description: https://datasheet.ciiva.com/5164/67996-223094-5164053.pdf?src-supplier=Mouser; ComponentLink2URL: https://datasheet.ciiva.com/29151/67996-29151163.pdf?src-supplier=Digi-Key; ComponentLink2Description: https://datasheet.ciiva.com/29151/67996-29151163.pdf?src-supplier=Digi-Key; ComponentLink3URL: https://datasheet.ciiva.com/10149/67996-10149406.pdf?src-supplier=Avnet; ComponentLink3Description: https://datasheet.ciiva.com/10149/67996-10149406.pdf?src-supplier=Avnet; Supplier 2: LCSC; Supplier Part Number 1: 609-5491-ND; Supplier Part Number 2: C492401
footprint PLD 2X1
pins: 1, 2

## Jumper_2x2
designator XP?, comment Jumper  (value not drawn)
Conn Unshrouded Header HDR 4 POS 2.54mm Solder ST Top Entry Thru-Hole BergStik® Bulk; Manufacturer: Amphenol ICC / FCI; Manufacturer Part Number: 67996-104HLF; Supplier 1: Digi-Key; RoHS: No; Category: Headers and Wire Housings; ComponentLink1URL: https://datasheet.ciiva.com/46395/1876884-46395959.pdf?src-supplier=Element14; ComponentLink1Description: https://datasheet.ciiva.com/46395/1876884-46395959.pdf?src-supplier=Element14; Supplier 2: LCSC; Supplier Part Number 2: C492419; Supplier Part Number 1: 609-3201-ND
footprint PLD 2X2
pins: 1, 2, 3, 4

## Jumper_2x3
designator XP?, comment Jumper  (value not drawn)
Conn Unshrouded Header HDR 6 POS 2.54mm Solder ST Top Entry Thru-Hole BergStik® Bulk; Manufacturer: Amphenol ICC / FCI; Manufacturer Part Number: 67997-206HLF; Supplier 1: Digi-Key; RoHS: No; Category: Headers and Wire Housings; Supplier 2: LCSC; Supplier Part Number 2: C492420; Supplier Part Number 1: 609-3234-ND
footprint PLD 2X3
footprint PLD 2X3 no key
pins: 1, 2, 3, 4, 5, 6

## KF2EDGR-5.0-2P
designator XP?
300V 15A 2 Bend -40℃~+105℃ 1 5mm Green Board Edge/Receptacle-Open P=5mm Pluggable System Terminal Block ROHS; Manufacturer: CiXi KaiFeng Electronics; Number of PINs Per Row: 2; Manufacturer Part Number: KF2EDGR-5.0-2P; Supplier 1: LCSC; Supplier Part Number 1: C441193; Voltage Rating (Max): 300V; Current Rating (Max): 15A; Mounting Style: Bend; Operating Temperature Range: -40℃~+105℃; Number of Rows: 1; Pitch: 5mm; Color: Green; Connector Type: Board Edge/Receptacle-Open
footprint 5EHDR-02P
pins: 1, 2
text: Цепь; Конт.

## KF2EDGR-5.0-3P
designator XP?
300V 15A 3 Bend -40℃~+105℃ 1 5mm Green Board Edge/Receptacle-Open P=5mm Pluggable System Terminal Block ROHS; Manufacturer: CiXi KaiFeng Electronics; Number of PINs Per Row: 3; Manufacturer Part Number: KF2EDGR-5.0-3P; Voltage Rating (Max): 300V; Current Rating (Max): 15A; Mounting Style: Bend; Operating Temperature Range: -40℃~+105℃; Number of Rows: 1; Pitch: 5mm; Color: Green; Connector Type: Board Edge/Receptacle-Open; Supplier 1: LCSC; Supplier Part Number 1: C441194
footprint 5EHDR-03P
pins: 1, 2, 3
text: Цепь; Конт.

## KLS2-141V-2.54-10P
designator XS?
footprint KLS2-141V-2.54-10P (Зажимной клеммник)
pins: 1, 2, 3, 4, 5, 6, 7, 8, 9, 10
text: Цепь; Конт.

## KPJX-4S-S
designator XS?
CONN JACK FMALE 4POS TIN SOLDER; Manufacturer: Kycon; Voltage Rating (DC): 20V; Connector Type: Power; Gender: Female; Current Rating: 7.5A; Insulation Resistance: 50MR; Number of Contacts: 4; Supplier 1: Digi-Key; Manufacturer Part Number: KPJX-4S-S; RoHS: Yes; Category: Connectors; Stock 1: 3946; Pricing 1: 1=2,23000, 10=2,02100, 25=1,89760, 50=1,81500, 100=1,73250, 250=1,56752, 500=1,44376, 1000=1,23750, 2500=1,15500 (USD); Mount: Through Hole; Color: Black; Contact Material: Brass; Contact Plating: Tin; Housing Material: PBT; Orientation: Straight; Termination: Solder; Packaging: Tray; Voltage Rating: 20V; Contact Gender: Female; Package Quantity: 170; Radiation Hardening: No; Flammability Rating: UL94 V-0; ComponentLink1URL: https://datasheet.ciiva.com/4561/kpjx-365262-4561421.pdf?src-supplier=Mouser; ComponentLink1Description: https://datasheet.ciiva.com/4561/kpjx-365262-4561421.pdf?src-supplier=Mouser; Supplier Part Number 1: 2092-KPJX-4S-S-ND
footprint KPJX-4S-S
pins: 1, 2, 3, 4, 5
text: Цепь; Конт.; PIN1; PIN2; PIN3; PIN4; Shield

## KPJX-4S-S Питание
designator XS?, comment KPJX-4S-S
CONN JACK FMALE 4POS TIN SOLDER; Manufacturer: Kycon; Voltage Rating (DC): 20V; Connector Type: Power; Gender: Female; Current Rating: 7.5A; Insulation Resistance: 50MR; Number of Contacts: 4; Supplier 1: Digi-Key; Manufacturer Part Number: KPJX-4S-S; RoHS: Yes; Category: Connectors; Stock 1: 3946; Pricing 1: 1=2,23000, 10=2,02100, 25=1,89760, 50=1,81500, 100=1,73250, 250=1,56752, 500=1,44376, 1000=1,23750, 2500=1,15500 (USD); Mount: Through Hole; Color: Black; Contact Material: Brass; Contact Plating: Tin; Housing Material: PBT; Orientation: Straight; Termination: Solder; Packaging: Tray; Voltage Rating: 20V; Contact Gender: Female; Package Quantity: 170; Radiation Hardening: No; Flammability Rating: UL94 V-0; ComponentLink1URL: https://datasheet.ciiva.com/4561/kpjx-365262-4561421.pdf?src-supplier=Mouser; ComponentLink1Description: https://datasheet.ciiva.com/4561/kpjx-365262-4561421.pdf?src-supplier=Mouser; Supplier Part Number 1: 2092-KPJX-4S-S-ND
footprint KPJX-4S-S
pins: 1, 2, 3, 4, 5
text: Цепь; Конт.; VCC; GND; Shield

## Molex 39-53-2284
designator X?  (value not drawn)
Conn FPC Connector SKT 28 POS 2.5mm Solder RA Thru-Hole Tray; Manufacturer: Molex; Actuator Material: PBT,Polyester,Polybutylene; Contact Resistance: 20mR; Current Rating: 1A; Voltage Rating: 200V; Number of Positions: 28; Wire/Cable Type: Straight; Supplier 1: Digi-Key; Manufacturer Part Number: 39-53-2284; RoHS: Yes; Category: FFC / FPC; Stock 1: 1984; Pricing 1: 1=2,64000, 10=2,39800, 25=2,25120, 50=2,15340, 100=2,05550, 350=1,85971, 700=1,71290, 1050=1,46820, 2800=1,37032 (USD); Mount: Through Hole; Contact Material: Bronze; Contact Plating: Tin; Housing Color: Natural; Housing Material: Polybutylene; Min Operating Temperature: -20°C; Max Operating Temperature: 80°C; Number of Rows: 1; Packaging: Tray; Package Quantity: 350; Termination: Solder; Orientation: Right Angle; Length: 40.75mm; Pitch: 2.5mm; Depth: 9.8mm; Radiation Hardening: No; Flammability Rating: UL94 V-0; ComponentLink1URL: https://datasheet.ciiva.com/3112/0039532284-ffc-fpc-connectors-3112033.pdf?src-supplier=Avnet; ComponentLink1Description: https://datasheet.ciiva.com/3112/0039532284-ffc-fpc-connectors-3112033.pdf?src-supplier=Avnet; ComponentLink2URL: https://datasheet.ciiva.com/5137/0039532284-ffc-fpc-connectors-160323-5137138.pdf?src-supplier=Mouser; ComponentLink2Description: https://datasheet.ciiva.com/5137/0039532284-ffc-fpc-connectors-160323-5137138.pdf?src-supplier=Mouser; ComponentLink3URL: https://datasheet.ciiva.com/11745/0900766b80d5c280-11745506.pdf?src-supplier=RSComponents; ComponentLink3Description: https://datasheet.ciiva.com/11745/0900766b80d5c280-11745506.pdf?src-supplier=RSComponents; ComponentLink4URL: https://datasheet.ciiva.com/16123/413980039532284-ffc-fpc-nectors-16123787.pdf?src-supplier=Onlinecomponents.com; ComponentLink4Description: https://datasheet.ciiva.com/16123/413980039532284-ffc-fpc-nectors-16123787.pdf?src-supplier=Onlinecomponents.com; ComponentLink5URL: https://datasheet.ciiva.com/26288/66100039532284-ffc-fpc-nectors-26288859.pdf?src-supplier=Onlinecomponents.com; ComponentLink5Description: https://datasheet.ciiva.com/26288/66100039532284-ffc-fpc-nectors-26288859.pdf?src-supplier=Onlinecomponents.com; ComponentLink6URL: https://datasheet.ciiva.com/16660/0039532284-ffc-fpc-connectors-16660085.pdf?src-supplier=Avnet+Europe; ComponentLink6Description: https://datasheet.ciiva.com/16660/0039532284-ffc-fpc-connectors-16660085.pdf?src-supplier=Avnet+Europe; ComponentLink7URL: https://datasheet.ciiva.com/10366/0039532284-ffc-fpc-connectors-10366634.pdf?src-supplier=Avnet; ComponentLink7Description: https://datasheet.ciiva.com/10366/0039532284-ffc-fpc-connectors-10366634.pdf?src-supplier=Avnet; ComponentLink8URL: https://datasheet.ciiva.com/671/039532284-sd-671724.pdf?src-supplier=Digi-Key; ComponentLink8Description: https://datasheet.ciiva.com/671/039532284-sd-671724.pdf?src-supplier=Digi-Key; Supplier Part Number 1: WM3965-ND

## Molex 473460001
designator XS?  (value not drawn)
Conn Micro USB Type B RCP 5 POS 0.65mm Solder RA SMD 5 Terminal 1 Port Embossed T/R; Manufacturer Part Number: 0473461001; Number of Contacts: 5; Gender: Receptacle; Number of Ports: 1; Max Voltage Rating (AC): 30V; РКД Наименование: *; Supplier 1: Digi-Key; Manufacturer: Molex; Stock 1: 27122; Pricing 1: 1=0.97, 10=0.867, 25=0.82, 50=0.7884, 100=0.7569, 250=0.69384, 500=0.63074, 1000=0.56766 (USD); Mount: Horizontal,Screw,Surface Mount; Contact Material: Copper Alloy; Contact Plating: Gold; Housing Material: Thermoplastic; Number of Terminals: 5; Min Operating Temperature: -30°C; Max Operating Temperature: 85°C; Termination: Solder; Orientation: Right Angle; Package Quantity: 2000; Packaging: Tape and Reel; Connector Type: USB; Features: Shielded; Length: 7.8mm; Pitch: 0.65mm; ComponentLink1URL: http://www.molex.com/pdm_docs/sd/473461001_sd.pdf; ComponentLink1Description: http://www.molex.com/pdm_docs/sd/473461001_sd.pdf; Supplier Part Number 1: WM11228CT-ND
footprint Molex 473460001
pins: 1, 2, 3, 4, 5, 6
text: Цепь; Конт.; Vbus; DM; DP; ID; GND; Shield

## Molex 1051330001
designator XS?  (value not drawn)
Conn Micro USB Type B RCP 5 POS 0.65mm Solder RA SMD 5 Terminal 1 Port T/R; Manufacturer Part Number: 105133-0001; Gender: Receptacle; Connector Type: Receptacle,USB; Number of Contacts: 5; Number of Ports: 1; Max Voltage Rating (AC): 30V; Current Rating: 1.8A; USB Standard: USB 2.0; Supplier 1: Digi-Key; Manufacturer: Molex; Stock 1: 41848; Pricing 1: 1=1.06, 10=0.928, 25=0.8732, 50=0.837, 100=0.8005, 250=0.72776 (USD); Mount: Surface Mount,Through Hole,Vertical; Contact Material: Copper Alloy; Contact Plating: Gold; Colour: Black; Number of Terminals: 5; Housing Material: Thermoplastic; Min Operating Temperature: -30°C; Max Operating Temperature: 85°C; Package Quantity: 500; Termination: Solder; Orientation: Right Angle; Packaging: Tape and Reel; Voltage Rating (AC): 30V; Features: Shielded; Pitch: 0.65mm; Radiation Hardening: No; REACH SVHC: Unknown; Flammability Rating: UL94 V-0; Supplier Part Number 1: WM9734CT-ND; РКД Наименование: *
footprint Molex 1051330001
pins: 1, 2, 3, 4, 5, 6
text: Цепь; Конт.; Vbus; DM; DP; ID; GND; Shield

## MSTB2.5/2-GF-5.08
designator XP?
Terminal Block, Header, 2Pos, R/a, Th Rohs Compliant: Yes; Manufacturer: Phoenix Contact; Manufacturer Part Number: 1776508; Current Rating: 12A; Voltage Rating: 250V; Number of Positions: 2; Number of Levels: 1; Voltage: 300V; Connector Type: Plug; Pitch: 5.08mm; Approvals: CSA,VDE,cULus,CB,EAC; Supplier 1: Digi-Key; RoHS: Yes; Category: Terminal Blocks; Stock 1: 8158; Pricing 1: 1=2,20000, 10=2,10500, 50=2,01300, 100=1,95810, 250=1,83000, 500=1,68360, 1000=1,55551, 2500=1,48230, 5000=1,39080 (USD); Mount: Through Hole; Contact Plating: Tin; Color: Green; Housing Material: Polybutylene; Weight: 5.396916oz; Housing Color: Green; Contact Material: Tin; Termination: Solder; Package Quantity: 50; Number of Positions Per Level: 2; Current: 12A; Number of Contacts: 2; Max Current Rating: 12A; Number of Rows: 1; Orientation: Right Angle; Series: MSTB; Packaging: Bulk; Number of Poles: 2; Length: 20.32mm; Width: 20.32mm; Height: 12.1mm; Depth: 12mm; RoHS Compliant: Yes; Flammability Rating: UL94 V-0; Lead Free: Lead Free; ComponentLink1URL: https://datasheet.ciiva.com/16096/1776508-16096738.pdf?src-supplier=Onlinecomponents.com; ComponentLink1Description: https://datasheet.ciiva.com/16096/1776508-16096738.pdf?src-supplier=Onlinecomponents.com; ComponentLink2URL: https://datasheet.ciiva.com/15197/getdatasheetpartid-176397-15197388.pdf?src-supplier=Verical; ComponentLink2Description: https://datasheet.ciiva.com/15197/getdatasheetpartid-176397-15197388.pdf?src-supplier=Verical; ComponentLink3URL: https://datasheet.ciiva.com/6747/1776508-6747503.pdf?src-supplier=Digi-Key; ComponentLink3Description: https://datasheet.ciiva.com/6747/1776508-6747503.pdf?src-supplier=Digi-Key; ComponentLink4URL: https://datasheet.ciiva.com/29210/569050-da-01-en-grundgehaeuse-1776508-250-st-29210298.pdf?src-supplier=Conrad; ComponentLink4Description: https://datasheet.ciiva.com/29210/569050-da-01-en-grundgehaeuse-1776508-250-st-29210298.pdf?src-supplier=Conrad; Supplier Part Number 1: 277-5741-ND
footprint MSTB 2,5/2-GF-5.08
pins: 1, 2
text: Цепь; Конт.

## MSTB2.5/3-GF-5.08
designator XP?
Conn Shrouded Header HDR 3 POS 5.08mm Solder RA Thru-Hole; Manufacturer: Phoenix Contact; Max Current Rating: 12A; Gender: Male; Supplier 1: Digi-Key; Manufacturer Part Number: MSTB2.5/3-GF-5.08; RoHS: Yes; Category: Uncategorized; Stock 1: 3609; Pricing 1: 1=3,35000, 10=3,20900, 50=3,06900, 100=2,98530, 250=2,79000, 500=2,56680, 1000=2,37149, 2500=2,25990 (USD); Contact Plating: Tin; Housing Material: Polybutylene; Housing Color: Green; Termination: Solder; Number of Rows: 1; Orientation: Right Angle; Length: 25.4mm; Pitch: 5.08mm; Depth: 12mm; Supplier Part Number 1: 277-5772-ND
footprint MSTB 2,5/3-GF-5.08
pins: 1, 2, 3
text: Цепь; Конт.

## NYS215
designator XS?
Conn, AV, Phone, Jack, 3 Cont, Pnl Mnt, Uninsulated, NYS Series, Solder, CuSn6 Cont Mtl; Manufacturer: Neutrik; Supplier 1: Farnell; Manufacturer Part Number: NYS215; RoHS: Yes; Category: Connectors; Stock 1: 73; Pricing 1: 1=1,42, 10=1,17, 100=0,909, 500=0,871, 1000=0,846, 2500=0,811 (EUR); ComponentLink1URL: https://datasheet.ciiva.com/16148/210-942262514-16148251.pdf?src-supplier=Onlinecomponents.com; ComponentLink1Description: https://datasheet.ciiva.com/16148/210-942262514-16148251.pdf?src-supplier=Onlinecomponents.com; ComponentLink2URL: https://datasheet.ciiva.com/16880/70088586-16880188.pdf?src-supplier=Allied+Electronics; ComponentLink2Description: https://datasheet.ciiva.com/16880/70088586-16880188.pdf?src-supplier=Allied+Electronics; ComponentLink3URL: https://datasheet.ciiva.com/29249/650985-da-01-en-klinkenbuchse-nys215-con-29249803.pdf?src-supplier=Conrad; ComponentLink3Description: https://datasheet.ciiva.com/29249/650985-da-01-en-klinkenbuchse-nys215-con-29249803.pdf?src-supplier=Conrad; Supplier Part Number 1: 4079576
footprint NYS215 (1/4 Phone Jack)
pins: 1, 2, 3, 4, 5, 6

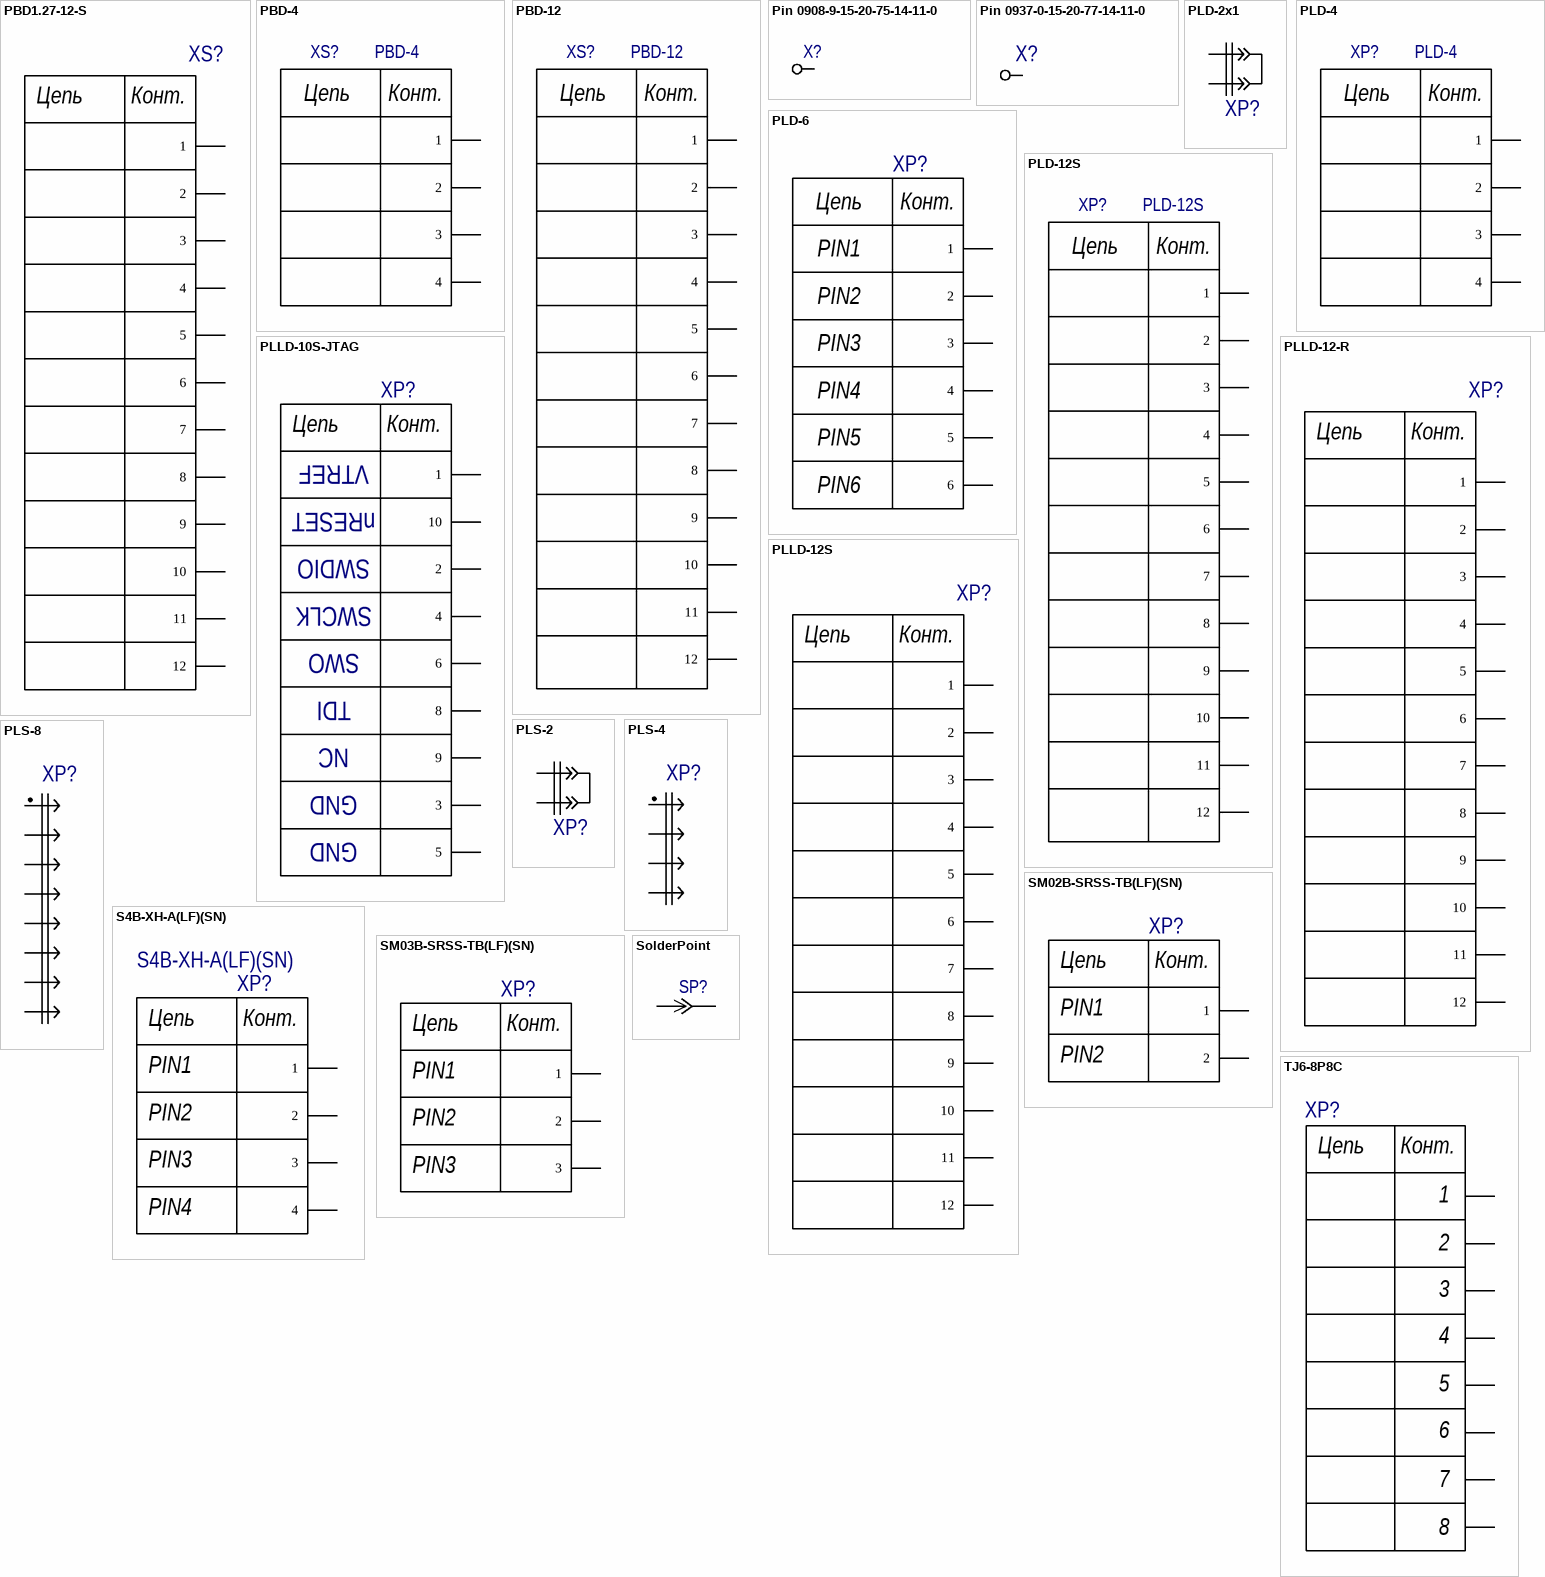
[diagram p2: symbols PBD1.27-12-S to TJ6-8P8C]

## PBD1.27-12-S
designator XS?
2x6 гнезд 1,27 мм, SMD; Manufacturer: *; Manufacturer Part Number: *; Supplier 1: *; Supplier Part Number 1: *
footprint PBD1.27-12-S
pins: 1, 2, 3, 4, 5, 6, 7, 8, 9, 10, 11, 12
text: Цепь; Конт.

## PBD-4
designator XS?
Розетка двухрядная прямые (гнездо) на плату для монтажа в отверстия, 4 контакта шаг 2,54x2,54 мм; Manufacturer Part Number: 2214S-04G-85
footprint PBD-4 (Розетка двухрядная)
pins: 1, 2, 3, 4
text: Цепь; Конт.